# Altium footprint library Library.PcbLib: 106 footprints (part 7 of 7)
Each footprint in its own frame and in the unit in brackets; x right, y up, seen from the top. Pads: shape width x height; smd on the part's side, far side on the other; paste and mask are expansions set on the pad; w line width, h text height; cw(c..) or ccw(c..) is an arc to the next point about the centre after c.
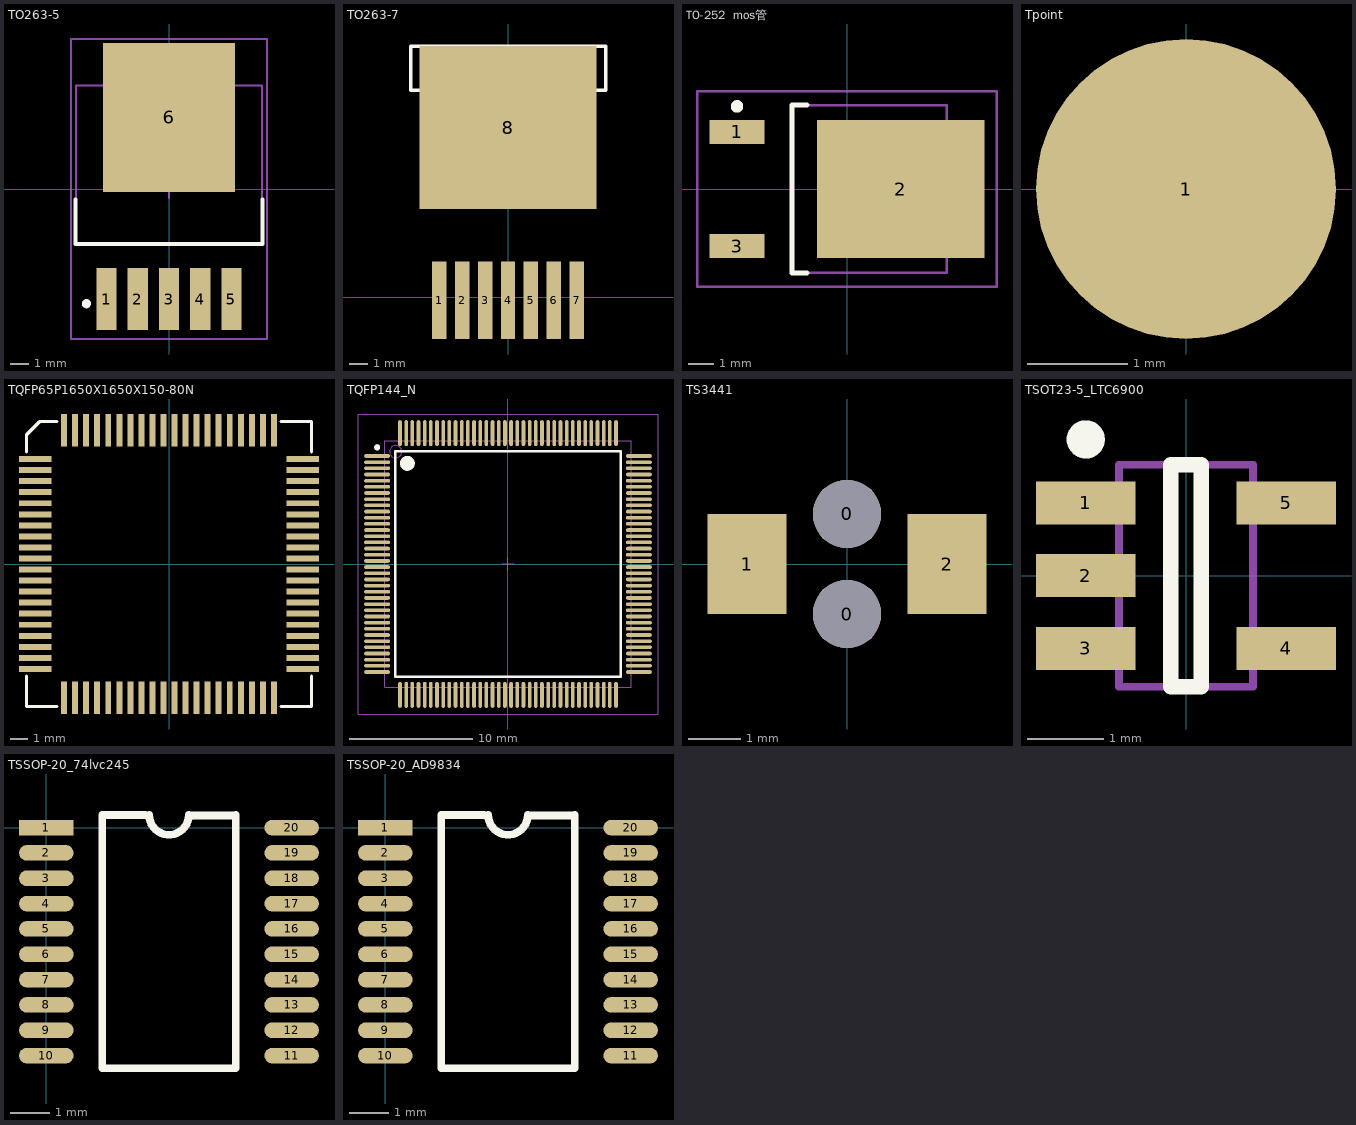
[diagram p6: the footprints below, top view; thin cyan lines are the x and y axes]

## TO263-5 [mm] "D2-PAK, 6-Pads, Body 8.6x10.2mm (max), IPC Medium Density"
height 4.57
pads (6):
  rect 1.1x3.4 smd: 1(-3.4,-5.996) 2(-1.7,-5.996) 3(0,-5.996) 4(1.7,-5.996) 5(3.4,-5.996)
  rect 7.2x8.1 smd: 6(0,3.9)
Top Overlay:
  circle w0.25: c-4.5,-6.25 r0.125
  lines w0.2: -5.1,-0.55 -5.1,-3 5.1,-3 5.1,-0.55
Mechanical 13:
  lines w0.1: -5.075,-3 -5.075,5.64 5.075,5.64 5.075,-3 -5.075,-3
Mechanical 15:
  lines w0.1: -0.5,0 0.5,0 ; 0,-0.5 0,0.5 ; -5.35,-8.175 -5.35,8.175 5.35,8.175 5.35,-8.175 -5.35,-8.175
3D body: height 4.57, standoff 0, extent -5.075,-3 5.075,5.64

## TO263-7 [mm]
pads (8):
  rect 0.8x4.3 smd: 1(-3.81,-0.15) 2(-2.54,-0.15) 3(-1.27,-0.15) 4(0,-0.15) 5(1.27,-0.15) 6(2.54,-0.15) 7(3.81,-0.15)
  rect 9.8x9 smd: 8(0,9.4)
Top Overlay:
  lines w0.2: -5.385,11.455 -5.385,13.894 5.41,13.894 5.41,11.455 -5.385,11.455

## TO-252  mos管 [mm] "D-PAK, 4-Leads, Body 6.1x6.5mm, Pitch 2.28mm, Lead Span 9.8mm, IPC Low Density"
height 2.38
pads (3):
  rect 2.2x0.95 smd: 1(-4.4,2.28) 3(-4.4,-2.28)
  rect 6.7x5.5 smd: 2(2.15,0)
Top Overlay:
  circle w0.25: c-4.4,3.305 r0.125
  lines w0.2: -1.6,-3.35 -2.2,-3.35 -2.2,3.35 -1.6,3.35
Mechanical 13:
  lines w0.1: -2.2,-3.35 4,-3.35 4,3.35 -2.2,3.35 -2.2,-3.35
Mechanical 15:
  lines w0.1: -0.5,0 0.5,0 ; 0,-0.5 0,0.5 ; -6,-3.9 6,-3.9 6,3.9 -6,3.9 -6,-3.9
3D body "User Library-DPAK-1.STEP": height 2.39, standoff -0.02, extent -4.9,-3.27 5.038,3.27

## Tpoint [mm]
pads (1):
  round 3 smd: 1(0,0)

## TQFP65P1650X1650X150-80N [mm]
pads (80):
  rect 1.9x0.35 smd: 1(-7.875,6.175) 2(-7.875,5.525) 3(-7.875,4.875) 4(-7.875,4.225) 5(-7.875,3.575) 6(-7.875,2.925) 7(-7.875,2.275) 8(-7.875,1.625) 9(-7.875,0.975) 10(-7.875,0.325) 11(-7.875,-0.325) 12(-7.875,-0.975) 13(-7.875,-1.625) 14(-7.875,-2.275) 15(-7.875,-2.925) 16(-7.875,-3.575) 17(-7.875,-4.225) 18(-7.875,-4.875) 19(-7.875,-5.525) 20(-7.875,-6.175) 41(7.875,-6.175) 42(7.875,-5.525) 43(7.875,-4.875) 44(7.875,-4.225) 45(7.875,-3.575) 46(7.875,-2.925) 47(7.875,-2.275) 48(7.875,-1.625) 49(7.875,-0.975) 50(7.875,-0.325) 51(7.875,0.325) 52(7.875,0.975) 53(7.875,1.625) 54(7.875,2.275) 55(7.875,2.925) 56(7.875,3.575) 57(7.875,4.225) 58(7.875,4.875) 59(7.875,5.525) 60(7.875,6.175)
  rect 0.35x1.9 smd: 21(-6.175,-7.875) 22(-5.525,-7.875) 23(-4.875,-7.875) 24(-4.225,-7.875) 25(-3.575,-7.875) 26(-2.925,-7.875) 27(-2.275,-7.875) 28(-1.625,-7.875) 29(-0.975,-7.875) 30(-0.325,-7.875) 31(0.325,-7.875) 32(0.975,-7.875) 33(1.625,-7.875) 34(2.275,-7.875) 35(2.925,-7.875) 36(3.575,-7.875) 37(4.225,-7.875) 38(4.875,-7.875) 39(5.525,-7.875) 40(6.175,-7.875) 61(6.175,7.875) 62(5.525,7.875) 63(4.875,7.875) 64(4.225,7.875) 65(3.575,7.875) 66(2.925,7.875) 67(2.275,7.875) 68(1.625,7.875) 69(0.975,7.875) 70(0.325,7.875) 71(-0.325,7.875) 72(-0.975,7.875) 73(-1.625,7.875) 74(-2.275,7.875) 75(-2.925,7.875) 76(-3.575,7.875) 77(-4.225,7.875) 78(-4.875,7.875) 79(-5.525,7.875) 80(-6.175,7.875)
Top Overlay:
  lines w0.2: -8.382,-6.604 -8.382,-8.382 -6.604,-8.382 ; -8.382,6.604 -8.382,7.62 -7.62,8.382 -6.604,8.382 ; 6.604,-8.382 8.382,-8.382 8.382,-6.604 ; 6.604,8.382 8.382,8.382 8.382,6.604

## TQFP144_N [mm] "TTM32V103ZET6"
height 1.6
pads (144):
  oval 2.1x0.3 smd: 1(-10.6,8.75) 2(-10.6,8.25) 3(-10.6,7.75) 4(-10.6,7.25) 5(-10.6,6.75) 6(-10.6,6.25) 7(-10.6,5.75) 8(-10.6,5.25) 9(-10.6,4.75) 10(-10.6,4.25) 11(-10.6,3.75) 12(-10.6,3.25) 13(-10.6,2.75) 14(-10.6,2.25) 15(-10.6,1.75) 16(-10.6,1.25) 17(-10.6,0.75) 18(-10.6,0.25) 19(-10.6,-0.25) 20(-10.6,-0.75) 21(-10.6,-1.25) 22(-10.6,-1.75) 23(-10.6,-2.25) 24(-10.6,-2.75) 25(-10.6,-3.25) 26(-10.6,-3.75) 27(-10.6,-4.25) 28(-10.6,-4.75) 29(-10.6,-5.25) 30(-10.6,-5.75) 31(-10.6,-6.25) 32(-10.6,-6.75) 33(-10.6,-7.25) 34(-10.6,-7.75) 35(-10.6,-8.25) 36(-10.6,-8.75) 73(10.6,-8.75) 74(10.6,-8.25) 75(10.6,-7.75) 76(10.6,-7.25) 77(10.6,-6.75) 78(10.6,-6.25) 79(10.6,-5.75) 80(10.6,-5.25) 81(10.6,-4.75) 82(10.6,-4.25) 83(10.6,-3.75) 84(10.6,-3.25) 85(10.6,-2.75) 86(10.6,-2.25) 87(10.6,-1.75) 88(10.6,-1.25) 89(10.6,-0.75) 90(10.6,-0.25) 91(10.6,0.25) 92(10.6,0.75) 93(10.6,1.25) 94(10.6,1.75) 95(10.6,2.25) 96(10.6,2.75) 97(10.6,3.25) 98(10.6,3.75) 99(10.6,4.25) 100(10.6,4.75) 101(10.6,5.25) 102(10.6,5.75) 103(10.6,6.25) 104(10.6,6.75) 105(10.6,7.25) 106(10.6,7.75) 107(10.6,8.25) 108(10.6,8.75)
  oval 0.3x2.1 smd: 37(-8.75,-10.6) 38(-8.25,-10.6) 39(-7.75,-10.6) 40(-7.25,-10.6) 41(-6.75,-10.6) 42(-6.25,-10.6) 43(-5.75,-10.6) 44(-5.25,-10.6) 45(-4.75,-10.6) 46(-4.25,-10.6) 47(-3.75,-10.6) 48(-3.25,-10.6) 49(-2.75,-10.6) 50(-2.25,-10.6) 51(-1.75,-10.6) 52(-1.25,-10.6) 53(-0.75,-10.6) 54(-0.25,-10.6) 55(0.25,-10.6) 56(0.75,-10.6) 57(1.25,-10.6) 58(1.75,-10.6) 59(2.25,-10.6) 60(2.75,-10.6) 61(3.25,-10.6) 62(3.75,-10.6) 63(4.25,-10.6) 64(4.75,-10.6) 65(5.25,-10.6) 66(5.75,-10.6) 67(6.25,-10.6) 68(6.75,-10.6) 69(7.25,-10.6) 70(7.75,-10.6) 71(8.25,-10.6) 72(8.75,-10.6) 109(8.75,10.6) 110(8.25,10.6) 111(7.75,10.6) 112(7.25,10.6) 113(6.75,10.6) 114(6.25,10.6) 115(5.75,10.6) 116(5.25,10.6) 117(4.75,10.6) 118(4.25,10.6) 119(3.75,10.6) 120(3.25,10.6) 121(2.75,10.6) 122(2.25,10.6) 123(1.75,10.6) 124(1.25,10.6) 125(0.75,10.6) 126(0.25,10.6) 127(-0.25,10.6) 128(-0.75,10.6) 129(-1.25,10.6) 130(-1.75,10.6) 131(-2.25,10.6) 132(-2.75,10.6) 133(-3.25,10.6) 134(-3.75,10.6) 135(-4.25,10.6) 136(-4.75,10.6) 137(-5.25,10.6) 138(-5.75,10.6) 139(-6.25,10.6) 140(-6.75,10.6) 141(-7.25,10.6) 142(-7.75,10.6) 143(-8.25,10.6) 144(-8.75,10.6)
Top Overlay:
  circle w0.25: c-10.6,9.45 r0.125
  circle w0.6: c-8.15,8.15 r0.3
  lines w0.2: -9.15,-9.15 -9.15,9.15 9.15,9.15 9.15,-9.15 -9.15,-9.15
Mechanical 13:
  circle w0.1: c-9.1,9.1 r0.5
  lines w0.1: -10,-10 -10,10 10,10 10,-10 -10,-10
Mechanical 15:
  lines w0.1: -0.5,0 0.5,0 ; 0,-0.5 0,0.5 ; -12.15,-12.15 -12.15,12.15 12.15,12.15 12.15,-12.15 -12.15,-12.15
3D body: height 1.6, standoff 0, extent -10,-10 10,10

## TS3441 [mm] "小乌龟侧按3x4"
pads (4):
  round 1.3 hole 1.3: 0(0,-0.95) 0(0,0.95)
  rect 1.5x1.9 smd: 1(-1.9,0) 2(1.9,0)

## TSOT23-5_LTC6900 [mm]
pads (5):
  rect 1.3x0.56 smd: 1(-1.31,0.95) 2(-1.31,0) 3(-1.31,-0.95) 4(1.31,-0.95) 5(1.31,0.95)
Top Overlay:
  circle w0.25: c-1.31,1.78 r0.125
  lines w0.2: -0.2,-1.45 0.2,-1.45 0.2,1.45 -0.2,1.45 -0.2,-1.45
Mechanical 13:
  lines w0.1: -0.875,-1.45 -0.875,1.45 0.875,1.45 0.875,-1.45 -0.875,-1.45

## TSSOP-20_74lvc245 [mm]
pads (20):
  rect 1.4x0.4 smd: 1(0,0)
  oval 1.4x0.4 smd: 2(0,-0.65) 3(0,-1.3) 4(0,-1.95) 5(0,-2.6) 6(0,-3.25) 7(0,-3.9) 8(0,-4.55) 9(0,-5.2) 10(0,-5.85) 11(6.3,-5.85) 12(6.3,-5.2) 13(6.3,-4.55) 14(6.3,-3.9) 15(6.3,-3.25) 16(6.3,-2.6) 17(6.3,-1.95) 18(6.3,-1.3) 19(6.3,-0.65) 20(6.3,0)
Top Overlay:
  lines w0.2: 2.54,0.325 1.435,0.325 1.435,-6.175 4.865,-6.175 4.865,0.325 ; 2.642,0.325 ccw(c3.15,0.325) 3.658,0.325 ; 3.683,0.31 4.788,0.31

## TSSOP-20_AD9834 [mm]
pads (20):
  rect 1.4x0.4 smd: 1(0,0)
  oval 1.4x0.4 smd: 2(0,-0.65) 3(0,-1.3) 4(0,-1.95) 5(0,-2.6) 6(0,-3.25) 7(0,-3.9) 8(0,-4.55) 9(0,-5.2) 10(0,-5.85) 11(6.3,-5.85) 12(6.3,-5.2) 13(6.3,-4.55) 14(6.3,-3.9) 15(6.3,-3.25) 16(6.3,-2.6) 17(6.3,-1.95) 18(6.3,-1.3) 19(6.3,-0.65) 20(6.3,0)
Top Overlay:
  lines w0.2: 2.54,0.325 1.435,0.325 1.435,-6.175 4.865,-6.175 4.865,0.325 ; 2.642,0.325 ccw(c3.15,0.325) 3.658,0.325 ; 3.683,0.31 4.788,0.31